# EAGLE library part DG413-SPDT-SPST-J (library joakim)
Quad switch, half normally closed/half normally open. Configured as one SPDT and two SPSTs
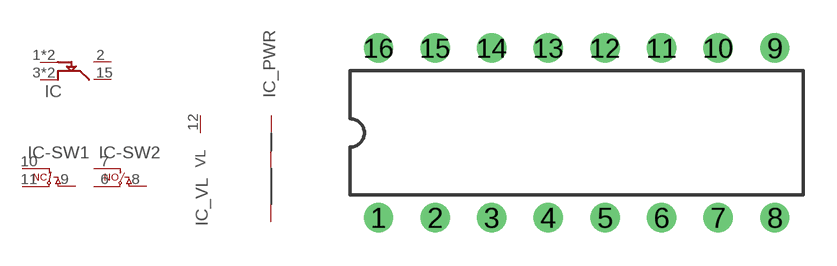
[diagram p70: symbol with the pads of DIL16J; footprint DIL16J]

Designator prefix IC; gates _VL=VL-PWR _PWR=XM8-PWR -SW3=SPDT_J -SW1=DG-CELL-NC -SW2=DG-CELL-NO

## DG413-SPDT-SPST-J  [DIL16J]
1  -SW3:CTRL  pas
2  -SW3:NO  pas
3  -SW3:COMMON  pas
4  _PWR:-15V  pwr
5  _PWR:AGND  pwr
6  -SW2:S
7  -SW2:D
8  -SW2:C
9  -SW1:C
10  -SW1:D
11  -SW1:S
12  _VL:VL
13  _PWR:+15V  pwr
14  -SW3:COMMON  pas
15  -SW3:NC  pas
16  -SW3:CTRL  pas

## Footprint DIL16J (pad centres in mm)
Dual In Line 16
drill 0.813: 1 -8.89,-3.81; 2 -6.35,-3.81; 3 -3.81,-3.81; 4 -1.27,-3.81; 5 1.27,-3.81; 6 3.81,-3.81; 7 6.35,-3.81; 8 8.89,-3.81; 9 8.89,3.81; 10 6.35,3.81; 11 3.81,3.81; 12 1.27,3.81; 13 -1.27,3.81; 14 -3.81,3.81; 15 -6.35,3.81; 16 -8.89,3.81